# EAGLE library part SCL3300-D01 (library edc_modules)
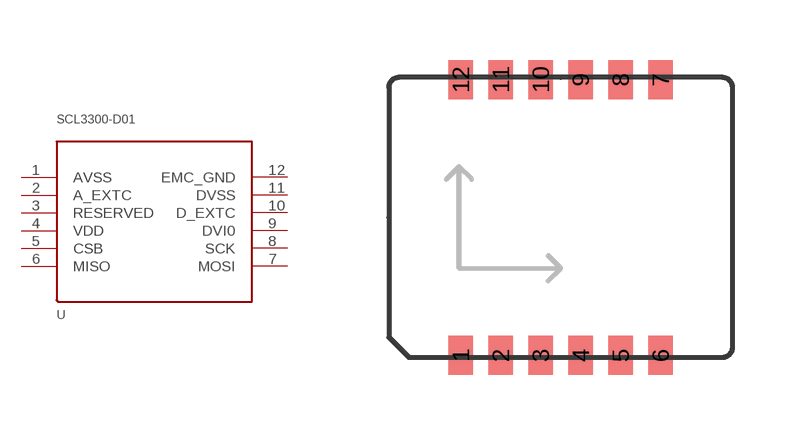
[diagram p3: symbol with the pads of SCL3300-D01; footprint SCL3300-D01]

Designator prefix -

## SCL3300-D01  [SCL3300-D01]
1  AVSS
2  A_EXTC
3  RESERVED
4  VDD
5  CSB
6  MISO
7  MOSI
8  SCK
9  DVI0
10  D_EXTC
11  DVSS
12  EMC_GND

## Footprint SCL3300-D01 (pad centres in mm)
smd 0.61 x 0.98: 1 -2.5,-3.445; 2 -1.5,-3.445; 3 -0.5,-3.445; 4 0.5,-3.445; 5 1.5,-3.445; 6 2.5,-3.445; 7 2.5,3.445; 8 1.5,3.445; 9 0.5,3.445; 10 -0.5,3.445; 11 -1.5,3.445; 12 -2.5,3.445